# Altium schematic symbol library LCD displays.SchLib: 2 symbols
Pins are listed as number, name and electrical type; pins without a type are passive.

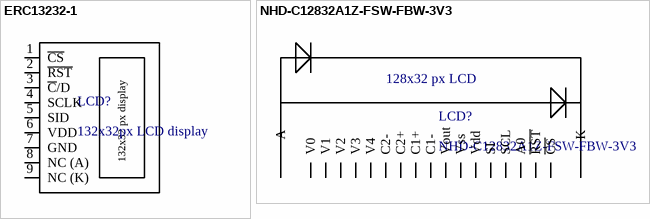
[diagram p0: symbols ERC13232-1 to NHD-C12832A1Z-FSW-FBW-3V3]

## ERC13232-1
designator LCD?, comment 132x32px LCD display
Manufacturer: EastRising; Part Number: ERC13232-1; Price 1: 1; Price 100: 1; Price 1000: 1
footprint ERC13232-1
pins: 1 ~{CS}, 2 ~{RST}, 3 ~{C}/D, 4 SCLK, 5 SID, 6 VDD, 7 GND, 8 NC (A), 9 NC (K)
text: 132x32 px display

## NHD-C12832A1Z-FSW-FBW-3V3
designator LCD?
128x32 px LCD
footprint NHD-C12832A1Z-FSW-FBW-3V3
pins: 0 A, 1 V0, 2 V1, 3 V2, 4 V3, 5 V4, 6 C2-, 7 C2+, 8 C1+, 9 C1-, 10 Vout, 11 Vss, 12 Vdd, 13 SI, 14 SCL, 15 A0, 16 ~{RST}, 17 ~{CS}, 18 K